# EAGLE library part HDMI (library FCI)
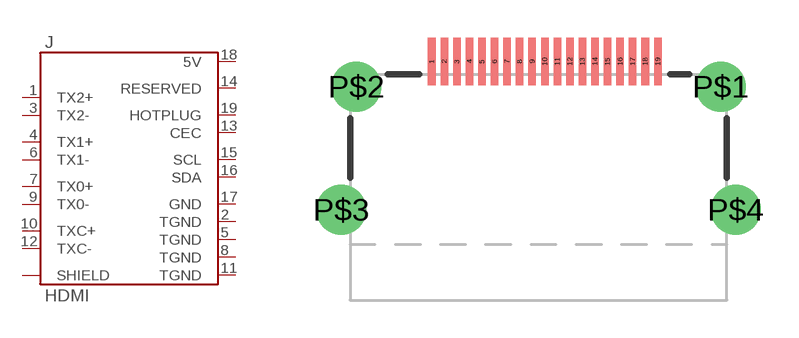
[diagram p0: symbol with the pads of HDMI-SMD; footprint HDMI-SMD]

Designator prefix J

## HDMI-SMD  [HDMI-SMD]
1  TX2+
2  TGND
3  TX2-
4  TX1+
5  TGND
6  TX1-
7  TX0+
8  TGND
9  TX0-
10  TXC+
11  TGND
12  TXC-
13  CEC
14  RESERVED
15  SCL
16  SDA
17  GND
18  5V
19  HOTPLUG
P$1  SHIELD
P$2  SHIELD
P$3  SHIELD
P$4  SHIELD

## Footprint HDMI-SMD (pad centres in mm)
smd 0.3 x 1.9: 1 -4.25,0; 2 -3.75,0; 3 -3.25,0; 4 -2.75,0; 5 -2.25,0; 6 -1.75,0; 7 -1.25,0; 8 -0.75,0; 9 -0.25,0; 10 0.25,0; 11 0.75,0; 12 1.25,0; 13 1.75,0; 14 2.25,0; 15 2.75,0; 16 3.25,0; 17 3.75,0; 18 4.25,0; 19 4.75,0
drill 1.3 pad 2: P$1 7.25,-1; P$2 -7.25,-1; P$3 -7.85,-5.9; P$4 7.85,-5.9